# EAGLE library part STM32F072 (library stm32f0)
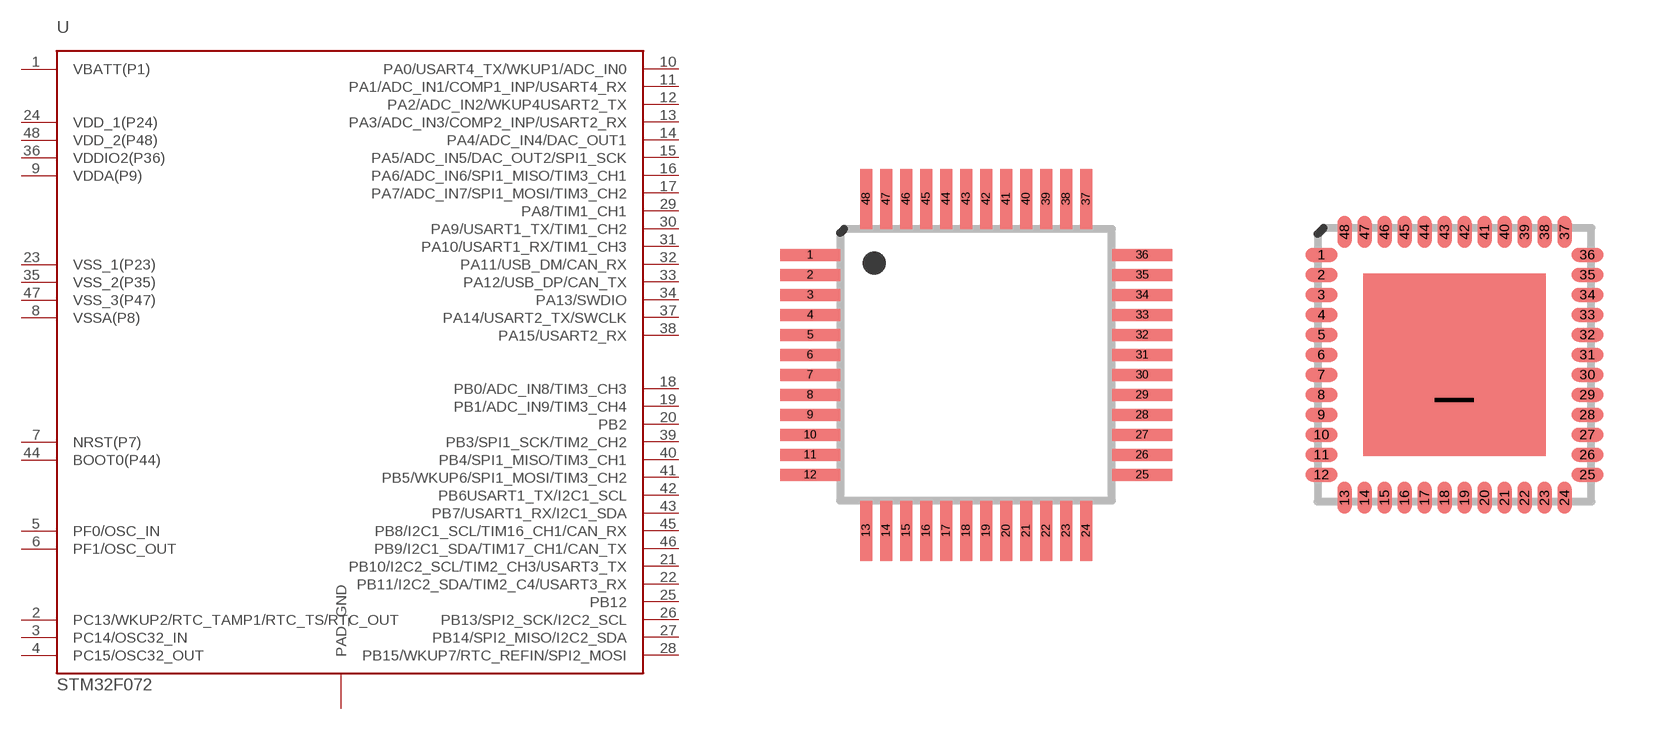
[diagram p0: symbol with the pads of LQFP48; footprints LQFP48, P-HVQFN48-7X7]

Designator prefix -

## STM32F072-LQFP48  [LQFP48]
1  VBATT(P1)
2  PC13/WKUP2/RTC_TAMP1/RTC_TS/RTC_OUT
3  PC14/OSC32_IN
4  PC15/OSC32_OUT
5  PF0/OSC_IN
6  PF1/OSC_OUT
7  NRST(P7)
8  VSSA(P8)
9  VDDA(P9)
10  PA0/USART4_TX/WKUP1/ADC_IN0
11  PA1/ADC_IN1/COMP1_INP/USART4_RX
12  PA2/ADC_IN2/WKUP4USART2_TX
13  PA3/ADC_IN3/COMP2_INP/USART2_RX
14  PA4/ADC_IN4/DAC_OUT1
15  PA5/ADC_IN5/DAC_OUT2/SPI1_SCK
16  PA6/ADC_IN6/SPI1_MISO/TIM3_CH1
17  PA7/ADC_IN7/SPI1_MOSI/TIM3_CH2
18  PB0/ADC_IN8/TIM3_CH3
19  PB1/ADC_IN9/TIM3_CH4
20  PB2
21  PB10/I2C2_SCL/TIM2_CH3/USART3_TX
22  PB11/I2C2_SDA/TIM2_C4/USART3_RX
23  VSS_1(P23)
24  VDD_1(P24)
25  PB12
26  PB13/SPI2_SCK/I2C2_SCL
27  PB14/SPI2_MISO/I2C2_SDA
28  PB15/WKUP7/RTC_REFIN/SPI2_MOSI
29  PA8/TIM1_CH1
30  PA9/USART1_TX/TIM1_CH2
31  PA10/USART1_RX/TIM1_CH3
32  PA11/USB_DM/CAN_RX
33  PA12/USB_DP/CAN_TX
34  PA13/SWDIO
35  VSS_2(P35)
36  VDDIO2(P36)
37  PA14/USART2_TX/SWCLK
38  PA15/USART2_RX
39  PB3/SPI1_SCK/TIM2_CH2
40  PB4/SPI1_MISO/TIM3_CH1
41  PB5/WKUP6/SPI1_MOSI/TIM3_CH2
42  PB6USART1_TX/I2C1_SCL
43  PB7/USART1_RX/I2C1_SDA
44  BOOT0(P44)
45  PB8/I2C1_SCL/TIM16_CH1/CAN_RX
46  PB9/I2C1_SDA/TIM17_CH1/CAN_TX
47  VSS_3(P47)
48  VDD_2(P48)

## STM32F072QFN48  [P-HVQFN48-7X7]
1  VBATT(P1)
2  PC13/WKUP2/RTC_TAMP1/RTC_TS/RTC_OUT
3  PC14/OSC32_IN
4  PC15/OSC32_OUT
5  PF0/OSC_IN
6  PF1/OSC_OUT
7  NRST(P7)
8  VSSA(P8)
9  VDDA(P9)
10  PA0/USART4_TX/WKUP1/ADC_IN0
11  PA1/ADC_IN1/COMP1_INP/USART4_RX
12  PA2/ADC_IN2/WKUP4USART2_TX
13  PA3/ADC_IN3/COMP2_INP/USART2_RX
14  PA4/ADC_IN4/DAC_OUT1
15  PA5/ADC_IN5/DAC_OUT2/SPI1_SCK
16  PA6/ADC_IN6/SPI1_MISO/TIM3_CH1
17  PA7/ADC_IN7/SPI1_MOSI/TIM3_CH2
18  PB0/ADC_IN8/TIM3_CH3
19  PB1/ADC_IN9/TIM3_CH4
20  PB2
21  PB10/I2C2_SCL/TIM2_CH3/USART3_TX
22  PB11/I2C2_SDA/TIM2_C4/USART3_RX
23  VSS_1(P23)
24  VDD_1(P24)
25  PB12
26  PB13/SPI2_SCK/I2C2_SCL
27  PB14/SPI2_MISO/I2C2_SDA
28  PB15/WKUP7/RTC_REFIN/SPI2_MOSI
29  PA8/TIM1_CH1
30  PA9/USART1_TX/TIM1_CH2
31  PA10/USART1_RX/TIM1_CH3
32  PA11/USB_DM/CAN_RX
33  PA12/USB_DP/CAN_TX
34  PA13/SWDIO
35  VSS_2(P35)
36  VDDIO2(P36)
37  PA14/USART2_TX/SWCLK
38  PA15/USART2_RX
39  PB3/SPI1_SCK/TIM2_CH2
40  PB4/SPI1_MISO/TIM3_CH1
41  PB5/WKUP6/SPI1_MOSI/TIM3_CH2
42  PB6USART1_TX/I2C1_SCL
43  PB7/USART1_RX/I2C1_SDA
44  BOOT0(P44)
45  PB8/I2C1_SCL/TIM16_CH1/CAN_RX
46  PB9/I2C1_SDA/TIM17_CH1/CAN_TX
47  VSS_3(P47)
48  VDD_2(P48)
_  PAD_GND

## Footprint LQFP48 (pad centres in mm)
LQFP48 VXH48A Auto generated by make-symbol-device-package-bsdl.ulp Rev. 34 Source: http://www.national.com/ds/DP/DP83848VYB.pdf
smd 1.5 x 0.3: 1 -4.15,2.75; 2 -4.15,2.25; 3 -4.15,1.75; 4 -4.15,1.25; 5 -4.15,0.75; 6 -4.15,0.25; 7 -4.15,-0.25; 8 -4.15,-0.75; 9 -4.15,-1.25; 10 -4.15,-1.75; 11 -4.15,-2.25; 12 -4.15,-2.75; 25 4.15,-2.75; 26 4.15,-2.25; 27 4.15,-1.75; 28 4.15,-1.25; 29 4.15,-0.75; 30 4.15,-0.25; 31 4.15,0.25; 32 4.15,0.75; 33 4.15,1.25; 34 4.15,1.75; 35 4.15,2.25; 36 4.15,2.75
smd 0.3 x 1.5: 13 -2.75,-4.15; 14 -2.25,-4.15; 15 -1.75,-4.15; 16 -1.25,-4.15; 17 -0.75,-4.15; 18 -0.25,-4.15; 19 0.25,-4.15; 20 0.75,-4.15; 21 1.25,-4.15; 22 1.75,-4.15; 23 2.25,-4.15; 24 2.75,-4.15; 37 2.75,4.15; 38 2.25,4.15; 39 1.75,4.15; 40 1.25,4.15; 41 0.75,4.15; 42 0.25,4.15; 43 -0.25,4.15; 44 -0.75,4.15; 45 -1.25,4.15; 46 -1.75,4.15; 47 -2.25,4.15; 48 -2.75,4.15

## Footprint P-HVQFN48-7X7 (pad centres in mm)
P-HVQFN48-7X7 Auto generated by make-symbol-device-package-bsdl.ulp Rev. 43 JEITA Package code RENESAS code Previous code P-HVQFN48-7x7-0.50 PVQN0048KG-A P48K9-50A-BAJ
smd 0.8 x 0.35: 1 -3.325,2.75; 2 -3.325,2.25; 3 -3.325,1.75; 4 -3.325,1.25; 5 -3.325,0.75; 6 -3.325,0.25; 7 -3.325,-0.25; 8 -3.325,-0.75; 9 -3.325,-1.25; 10 -3.325,-1.75; 11 -3.325,-2.25; 12 -3.325,-2.75; 25 3.325,-2.75; 26 3.325,-2.25; 27 3.325,-1.75; 28 3.325,-1.25; 29 3.325,-0.75; 30 3.325,-0.25; 31 3.325,0.25; 32 3.325,0.75; 33 3.325,1.25; 34 3.325,1.75; 35 3.325,2.25; 36 3.325,2.75
smd 0.35 x 0.8: 13 -2.75,-3.325; 14 -2.25,-3.325; 15 -1.75,-3.325; 16 -1.25,-3.325; 17 -0.75,-3.325; 18 -0.25,-3.325; 19 0.25,-3.325; 20 0.75,-3.325; 21 1.25,-3.325; 22 1.75,-3.325; 23 2.25,-3.325; 24 2.75,-3.325; 37 2.75,3.325; 38 2.25,3.325; 39 1.75,3.325; 40 1.25,3.325; 41 0.75,3.325; 42 0.25,3.325; 43 -0.25,3.325; 44 -0.75,3.325; 45 -1.25,3.325; 46 -1.75,3.325; 47 -2.25,3.325; 48 -2.75,3.325
smd 4.572 x 4.572: _ 0,0